# Altium footprint library LD_EDFA.PcbLib: 280 footprints (part 10 of 18)
Each footprint in its own frame and in the unit in brackets; x right, y up, seen from the top. Pads: shape width x height; smd on the part's side, far side on the other; paste and mask are expansions set on the pad; w line width, h text height; cw(c..) or ccw(c..) is an arc to the next point about the centre after c.
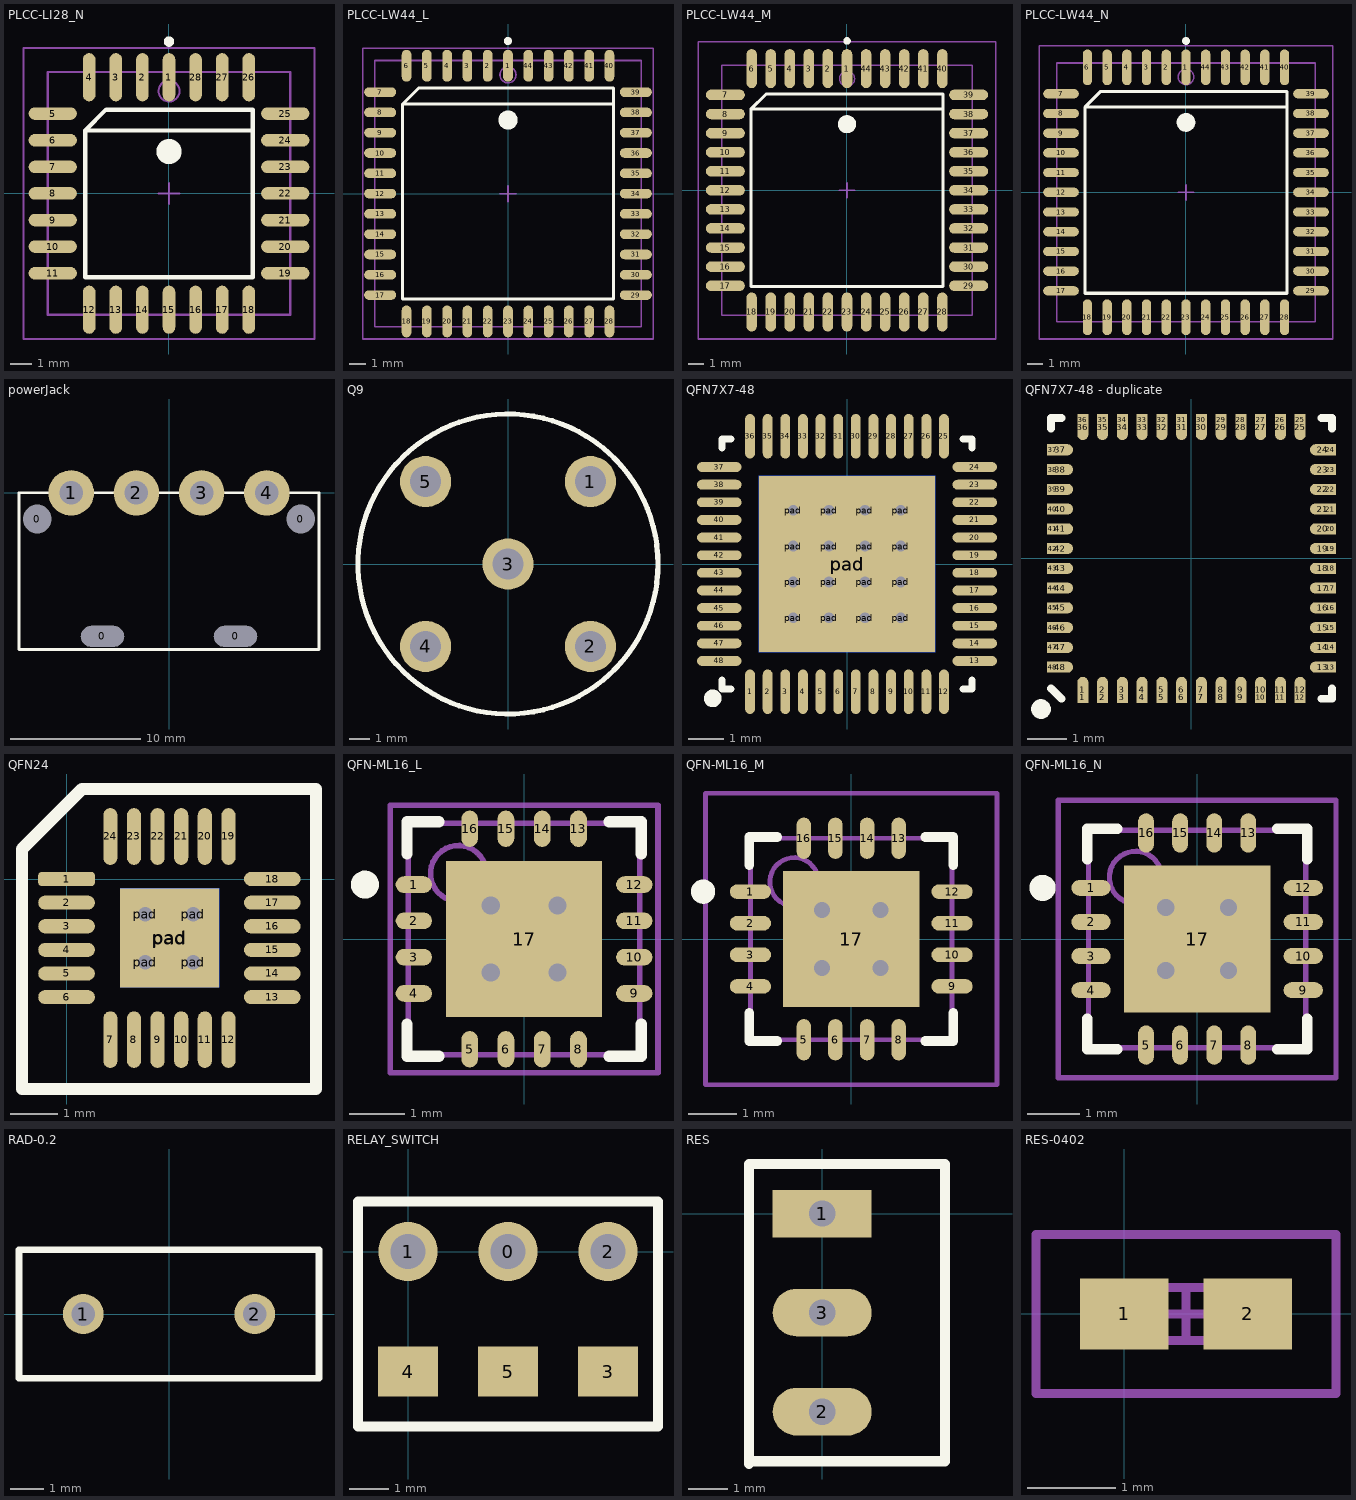
[diagram p9: the footprints below, top view; thin cyan lines are the x and y axes]

## PLCC-LI28_N [mm] "Leaded Chip Carrier, 28-Leads, Body 11.5x11.5mm, Pitch 1.27mm, IPC Medium Density"
height 4.58
pads (28):
  oval 0.6x2.3 smd: 1(0,5.55) 2(-1.27,5.55) 3(-2.54,5.55) 4(-3.81,5.55) 12(-3.81,-5.55) 13(-2.54,-5.55) 14(-1.27,-5.55) 15(0,-5.55) 16(1.27,-5.55) 17(2.54,-5.55) 18(3.81,-5.55) 26(3.81,5.55) 27(2.54,5.55) 28(1.27,5.55)
  oval 2.3x0.6 smd: 5(-5.55,3.81) 6(-5.55,2.54) 7(-5.55,1.27) 8(-5.55,0) 9(-5.55,-1.27) 10(-5.55,-2.54) 11(-5.55,-3.81) 19(5.55,-3.81) 20(5.55,-2.54) 21(5.55,-1.27) 22(5.55,0) 23(5.55,1.27) 24(5.55,2.54) 25(5.55,3.81)
Top Overlay:
  circle w0.6: c0,2 r0.3
  circle w0.25: c0,7.25 r0.125
  lines w0.2: 4,3 -4,3 ; -4,3 -4,-4 4,-4 4,4 -3,4 -4,3
Mechanical 13:
  circle w0.1: c0,4.89 r0.5
  lines w0.1: -5.79,-5.79 5.79,-5.79 5.79,5.79 -5.79,5.79 -5.79,-5.79
Mechanical 15:
  lines w0.1: -0.5,0 0.5,0 ; 0,-0.5 0,0.5 ; -6.95,-6.95 6.95,-6.95 6.95,6.95 -6.95,6.95 -6.95,-6.95
3D body: height 4.58, standoff 0, extent -5.79,-5.79 5.79,5.79

## PLCC-LW44_L [mm] "Leaded Chip Carrier, 44-Leads, Body 16.6x16.6mm, Pitch 1.27mm, IPC High Density"
height 4.58
pads (44):
  oval 0.6x2 smd: 1(0,8) 2(-1.27,8) 3(-2.54,8) 4(-3.81,8) 5(-5.08,8) 6(-6.35,8) 18(-6.35,-8) 19(-5.08,-8) 20(-3.81,-8) 21(-2.54,-8) 22(-1.27,-8) 23(0,-8) 24(1.27,-8) 25(2.54,-8) 26(3.81,-8) 27(5.08,-8) 28(6.35,-8) 40(6.35,8) 41(5.08,8) 42(3.81,8) 43(2.54,8) 44(1.27,8)
  oval 2x0.6 smd: 7(-8,6.35) 8(-8,5.08) 9(-8,3.81) 10(-8,2.54) 11(-8,1.27) 12(-8,0) 13(-8,-1.27) 14(-8,-2.54) 15(-8,-3.81) 16(-8,-5.08) 17(-8,-6.35) 29(8,-6.35) 30(8,-5.08) 31(8,-3.81) 32(8,-2.54) 33(8,-1.27) 34(8,0) 35(8,1.27) 36(8,2.54) 37(8,3.81) 38(8,5.08) 39(8,6.35)
Top Overlay:
  circle w0.25: c0,9.55 r0.125
  circle w0.6: c0,4.6 r0.3
  lines w0.2: 6.6,5.6 -6.6,5.6 ; -6.6,5.6 -5.6,6.6 6.6,6.6 6.6,-6.6 -6.6,-6.6 -6.6,5.6
Mechanical 13:
  circle w0.1: c0,7.43 r0.5
  lines w0.1: -8.33,-8.33 -8.33,8.33 8.33,8.33 8.33,-8.33 -8.33,-8.33
Mechanical 15:
  lines w0.1: -0.5,0 0.5,0 ; 0,-0.5 0,0.5 ; -9.1,-9.1 -9.1,9.1 9.1,9.1 9.1,-9.1 -9.1,-9.1
3D body: height 4.58, standoff 0, extent -8.33,-8.33 8.33,8.33

## PLCC-LW44_M [mm] "Leaded Chip Carrier, 44-Leads, Body 16.6x16.6mm, Pitch 1.27mm, IPC Low Density"
height 4.58
pads (44):
  oval 0.7x2.6 smd: 1(0,8.1) 2(-1.27,8.1) 3(-2.54,8.1) 4(-3.81,8.1) 5(-5.08,8.1) 6(-6.35,8.1) 18(-6.35,-8.1) 19(-5.08,-8.1) 20(-3.81,-8.1) 21(-2.54,-8.1) 22(-1.27,-8.1) 23(0,-8.1) 24(1.27,-8.1) 25(2.54,-8.1) 26(3.81,-8.1) 27(5.08,-8.1) 28(6.35,-8.1) 40(6.35,8.1) 41(5.08,8.1) 42(3.81,8.1) 43(2.54,8.1) 44(1.27,8.1)
  oval 2.6x0.7 smd: 7(-8.1,6.35) 8(-8.1,5.08) 9(-8.1,3.81) 10(-8.1,2.54) 11(-8.1,1.27) 12(-8.1,0) 13(-8.1,-1.27) 14(-8.1,-2.54) 15(-8.1,-3.81) 16(-8.1,-5.08) 17(-8.1,-6.35) 29(8.1,-6.35) 30(8.1,-5.08) 31(8.1,-3.81) 32(8.1,-2.54) 33(8.1,-1.27) 34(8.1,0) 35(8.1,1.27) 36(8.1,2.54) 37(8.1,3.81) 38(8.1,5.08) 39(8.1,6.35)
Top Overlay:
  circle w0.25: c0,9.95 r0.125
  circle w0.6: c0,4.4 r0.3
  lines w0.2: 6.4,5.4 -6.4,5.4 ; -6.4,5.4 -5.4,6.4 6.4,6.4 6.4,-6.4 -6.4,-6.4 -6.4,5.4
Mechanical 13:
  circle w0.1: c0,7.43 r0.5
  lines w0.1: -8.33,-8.33 -8.33,8.33 8.33,8.33 8.33,-8.33 -8.33,-8.33
Mechanical 15:
  lines w0.1: -0.5,0 0.5,0 ; 0,-0.5 0,0.5 ; -9.9,-9.9 -9.9,9.9 9.9,9.9 9.9,-9.9 -9.9,-9.9
3D body: height 4.58, standoff 0, extent -8.33,-8.33 8.33,8.33

## PLCC-LW44_N [mm] "Leaded Chip Carrier, 44-Leads, Body 16.6x16.6mm, Pitch 1.27mm, IPC Medium Density"
height 4.58
pads (44):
  oval 0.6x2.3 smd: 1(0,8.05) 2(-1.27,8.05) 3(-2.54,8.05) 4(-3.81,8.05) 5(-5.08,8.05) 6(-6.35,8.05) 18(-6.35,-8.05) 19(-5.08,-8.05) 20(-3.81,-8.05) 21(-2.54,-8.05) 22(-1.27,-8.05) 23(0,-8.05) 24(1.27,-8.05) 25(2.54,-8.05) 26(3.81,-8.05) 27(5.08,-8.05) 28(6.35,-8.05) 40(6.35,8.05) 41(5.08,8.05) 42(3.81,8.05) 43(2.54,8.05) 44(1.27,8.05)
  oval 2.3x0.6 smd: 7(-8.05,6.35) 8(-8.05,5.08) 9(-8.05,3.81) 10(-8.05,2.54) 11(-8.05,1.27) 12(-8.05,0) 13(-8.05,-1.27) 14(-8.05,-2.54) 15(-8.05,-3.81) 16(-8.05,-5.08) 17(-8.05,-6.35) 29(8.05,-6.35) 30(8.05,-5.08) 31(8.05,-3.81) 32(8.05,-2.54) 33(8.05,-1.27) 34(8.05,0) 35(8.05,1.27) 36(8.05,2.54) 37(8.05,3.81) 38(8.05,5.08) 39(8.05,6.35)
Top Overlay:
  circle w0.6: c0,4.5 r0.3
  circle w0.25: c0,9.75 r0.125
  lines w0.2: 6.5,5.5 -6.5,5.5 ; -6.5,5.5 -6.5,-6.5 6.5,-6.5 6.5,6.5 -5.5,6.5 -6.5,5.5
Mechanical 13:
  circle w0.1: c0,7.43 r0.5
  lines w0.1: -8.33,-8.33 8.33,-8.33 8.33,8.33 -8.33,8.33 -8.33,-8.33
Mechanical 15:
  lines w0.1: -0.5,0 0.5,0 ; 0,-0.5 0,0.5 ; -9.45,-9.45 9.45,-9.45 9.45,9.45 -9.45,9.45 -9.45,-9.45
3D body: height 4.58, standoff 0, extent -8.33,-8.33 8.33,8.33

## powerJack [mm]
pads (8):
  round 1 hole 2.2: 0(-10.1,-2) 0(10.1,-2)
  round 1 hole 1.6 slot 3.3 at 0 deg: 0(-5.1,-11) 0(5.1,-11)
  round 3.5 hole 1.8: 1(-7.5,0) 2(-2.5,0) 3(2.5,0) 4(7.5,0)
Top Overlay:
  lines w0.203: -11.5,-12 11.5,-12 11.5,0 -11.5,0 -11.5,-12

## Q9 [mil]
pads (5):
  round 100 hole 60: 1(161,161) 2(161,-161) 3(0,0) 4(-161,-161) 5(-161,161)
Top Overlay:
  circle w10: c0,0 r293

## QFN7X7-48 [mm]
pads (66):
  oval 0.28x1.26 smd: 1(-2.75,-3.625) 2(-2.25,-3.625) 3(-1.75,-3.625) 4(-1.25,-3.625) 5(-0.75,-3.625) 6(-0.25,-3.625) 7(0.25,-3.625) 8(0.75,-3.625) 9(1.25,-3.625) 10(1.75,-3.625) 11(2.25,-3.625) 12(2.75,-3.625) 25(2.75,3.625) 26(2.25,3.625) 27(1.75,3.625) 28(1.25,3.625) 29(0.75,3.625) 30(0.25,3.625) 31(-0.25,3.625) 32(-0.75,3.625) 33(-1.25,3.625) 34(-1.75,3.625) 35(-2.25,3.625) 36(-2.75,3.625)
  oval 1.26x0.28 smd: 13(3.625,-2.75) 14(3.625,-2.25) 15(3.625,-1.75) 16(3.625,-1.25) 17(3.625,-0.75) 18(3.625,-0.25) 19(3.625,0.25) 20(3.625,0.75) 21(3.625,1.25) 22(3.625,1.75) 23(3.625,2.25) 24(3.625,2.75) 37(-3.625,2.75) 38(-3.625,2.25) 39(-3.625,1.75) 40(-3.625,1.25) 41(-3.625,0.75) 42(-3.625,0.25) 43(-3.625,-0.25) 44(-3.625,-0.75) 45(-3.625,-1.25) 46(-3.625,-1.75) 47(-3.625,-2.25) 48(-3.625,-2.75)
  round 0.635 hole 0.305: pad(-1.524,-1.524) pad(-1.524,-0.508) pad(-1.524,0.508) pad(-1.524,1.524) pad(-0.508,-1.524) pad(-0.508,-0.508) pad(-0.508,0.508) pad(-0.508,1.524) pad(0.508,-1.524) pad(0.508,-0.508) pad(0.508,0.508) pad(0.508,1.524) pad(1.524,-1.524) pad(1.524,-0.508) pad(1.524,0.508) pad(1.524,1.524)
  rect 5x5 smd: pad(0,0)
  rect 5x5 smd far side: pad(0,0)
Top Overlay:
  circle w0.25: c-3.808,-3.81 r0.125
  lines w0.2: -3.55,-3.29 -3.55,-3.55 -3.29,-3.55 ; -3.55,3.29 -3.55,3.55 -3.29,3.55 ; 3.29,-3.55 3.55,-3.55 3.55,-3.29 ; 3.29,3.55 3.55,3.55 3.55,3.29
3D body: height 1, standoff 0, extent -3.505,-3.505 3.505,3.505

## QFN7X7-48 - duplicate [mm]
pads (96):
  rect 0.28x0.28 smd: 1(-2.75,-3.515) 2(-2.25,-3.515) 3(-1.75,-3.515) 4(-1.25,-3.515) 5(-0.75,-3.515) 6(-0.25,-3.515) 7(0.25,-3.515) 8(0.75,-3.515) 9(1.25,-3.515) 10(1.75,-3.515) 11(2.25,-3.515) 12(2.75,-3.515) 13(3.515,-2.75) 14(3.515,-2.25) 15(3.515,-1.75) 16(3.515,-1.25) 17(3.515,-0.75) 18(3.515,-0.25) 19(3.515,0.25) 20(3.515,0.75) 21(3.515,1.25) 22(3.515,1.75) 23(3.515,2.25) 24(3.515,2.75) 25(2.75,3.515) 26(2.25,3.515) 27(1.75,3.515) 28(1.25,3.515) 29(0.75,3.515) 30(0.25,3.515) 31(-0.25,3.515) 32(-0.75,3.515) 33(-1.25,3.515) 34(-1.75,3.515) 35(-2.25,3.515) 36(-2.75,3.515) 37(-3.515,2.75) 38(-3.515,2.25) 39(-3.515,1.75) 40(-3.515,1.25) 41(-3.515,0.75) 42(-3.515,0.25) 43(-3.515,-0.25) 44(-3.515,-0.75) 45(-3.515,-1.25) 46(-3.515,-1.75) 47(-3.515,-2.25) 48(-3.515,-2.75)
  oval 0.28x0.66 smd: 1(-2.75,-3.325) 2(-2.25,-3.325) 3(-1.75,-3.325) 4(-1.25,-3.325) 5(-0.75,-3.325) 6(-0.25,-3.325) 7(0.25,-3.325) 8(0.75,-3.325) 9(1.25,-3.325) 10(1.75,-3.325) 11(2.25,-3.325) 12(2.75,-3.325) 25(2.75,3.325) 26(2.25,3.325) 27(1.75,3.325) 28(1.25,3.325) 29(0.75,3.325) 30(0.25,3.325) 31(-0.25,3.325) 32(-0.75,3.325) 33(-1.25,3.325) 34(-1.75,3.325) 35(-2.25,3.325) 36(-2.75,3.325)
  oval 0.66x0.28 smd: 13(3.325,-2.75) 14(3.325,-2.25) 15(3.325,-1.75) 16(3.325,-1.25) 17(3.325,-0.75) 18(3.325,-0.25) 19(3.325,0.25) 20(3.325,0.75) 21(3.325,1.25) 22(3.325,1.75) 23(3.325,2.25) 24(3.325,2.75) 37(-3.325,2.75) 38(-3.325,2.25) 39(-3.325,1.75) 40(-3.325,1.25) 41(-3.325,0.75) 42(-3.325,0.25) 43(-3.325,-0.25) 44(-3.325,-0.75) 45(-3.325,-1.25) 46(-3.325,-1.75) 47(-3.325,-2.25) 48(-3.325,-2.75)
Top Overlay:
  circle w0.25: c-3.808,-3.81 r0.125
  lines w0.2: -3.55,-3.29 -3.29,-3.55 ; -3.55,3.29 -3.55,3.55 -3.29,3.55 ; 3.29,-3.55 3.55,-3.55 3.55,-3.29 ; 3.29,3.55 3.55,3.55 3.55,3.29

## QFN24 [mm]
pads (30):
  rrect50% 1.2x0.3 smd: 1(0,0)
  oval 1.2x0.3 smd: 2(0,-0.5) 3(0,-1) 4(0,-1.5) 5(0,-2) 6(0,-2.5) 13(4.354,-2.5) 14(4.354,-2) 15(4.354,-1.5) 16(4.354,-1) 17(4.354,-0.5) 18(4.354,0)
  oval 0.3x1.2 smd: 7(0.927,-3.4) 8(1.427,-3.4) 9(1.927,-3.4) 10(2.427,-3.4) 11(2.927,-3.4) 12(3.427,-3.4) 19(3.427,0.9) 20(2.927,0.9) 21(2.427,0.9) 22(1.927,0.9) 23(1.427,0.9) 24(0.927,0.9)
  round 0.635 hole 0.305 paste+0 mask+0: pad(1.669,-1.758) pad(1.669,-0.742) pad(2.685,-1.758) pad(2.685,-0.742)
  rect 2.1x2.1 smd: pad(2.177,-1.25)
  rect 2.1x2.1 smd far side: pad(2.184,-1.245)
Top Overlay:
  lines w0.254: -0.943,-4.445 5.28,-4.445 5.28,1.905 0.327,1.905 -0.943,0.635 -0.943,-4.445

## QFN-ML16_L [mm] "QFN, 16-Leads, Body 4x4 mm, Pitch 0.65mm, IPC High Density"
height 1
pads (17):
  oval 0.65x0.3 smd: 1(-1.975,0.975) 2(-1.975,0.325) 3(-1.975,-0.325) 4(-1.975,-0.975) 9(1.975,-0.975) 10(1.975,-0.325) 11(1.975,0.325) 12(1.975,0.975)
  oval 0.3x0.65 smd: 5(-0.975,-1.975) 6(-0.325,-1.975) 7(0.325,-1.975) 8(0.975,-1.975) 13(0.975,1.975) 14(0.325,1.975) 15(-0.325,1.975) 16(-0.975,1.975)
  rect 2.8x2.8 smd: 17(0,0)
via 0.6,-0.6 diameter 0.66 hole 0.33
via -0.6,-0.6 diameter 0.66 hole 0.33
via 0.6,0.6 diameter 0.66 hole 0.33
via -0.6,0.6 diameter 0.66 hole 0.33
Top Overlay:
  circle w0.25: c-2.85,0.975 r0.125
  lines w0.2: -2.1,-1.525 -2.1,-2.1 -1.525,-2.1 ; -2.1,1.525 -2.1,2.1 -1.525,2.1 ; 1.525,-2.1 2.1,-2.1 2.1,-1.525 ; 1.525,2.1 2.1,2.1 2.1,1.525
Mechanical 13:
  circle w0.1: c-1.175,1.175 r0.5
  lines w0.1: -2.075,-2.075 2.075,-2.075 2.075,2.075 -2.075,2.075 -2.075,-2.075
Mechanical 15:
  lines w0.1: -0.5,0 0.5,0 ; 0,-0.5 0,0.5 ; -2.4,-2.4 2.4,-2.4 2.4,2.4 -2.4,2.4 -2.4,-2.4
3D body: height 1, standoff 0, extent -2.075,-2.075 2.075,2.075

## QFN-ML16_M [mm] "QFN, 16-Leads, Body 4x4 mm, Pitch 0.65mm, IPC Low Density"
height 1
pads (17):
  oval 0.85x0.3 smd: 1(-2.075,0.975) 2(-2.075,0.325) 3(-2.075,-0.325) 4(-2.075,-0.975) 9(2.075,-0.975) 10(2.075,-0.325) 11(2.075,0.325) 12(2.075,0.975)
  oval 0.3x0.85 smd: 5(-0.975,-2.075) 6(-0.325,-2.075) 7(0.325,-2.075) 8(0.975,-2.075) 13(0.975,2.075) 14(0.325,2.075) 15(-0.325,2.075) 16(-0.975,2.075)
  rect 2.8x2.8 smd: 17(0,0)
via 0.6,-0.6 diameter 0.66 hole 0.33
via -0.6,-0.6 diameter 0.66 hole 0.33
via 0.6,0.6 diameter 0.66 hole 0.33
via -0.6,0.6 diameter 0.66 hole 0.33
Top Overlay:
  circle w0.25: c-3.05,0.975 r0.125
  lines w0.2: -2.1,-1.525 -2.1,-2.1 -1.525,-2.1 ; -2.1,1.525 -2.1,2.1 -1.525,2.1 ; 1.525,-2.1 2.1,-2.1 2.1,-1.525 ; 1.525,2.1 2.1,2.1 2.1,1.525
Mechanical 13:
  circle w0.1: c-1.175,1.175 r0.5
  lines w0.1: -2.075,-2.075 2.075,-2.075 2.075,2.075 -2.075,2.075 -2.075,-2.075
Mechanical 15:
  lines w0.1: -0.5,0 0.5,0 ; 0,-0.5 0,0.5 ; -3,-3 3,-3 3,3 -3,3 -3,-3
3D body: height 1, standoff 0, extent -2.075,-2.075 2.075,2.075

## QFN-ML16_N [mm] "QFN, 16-Leads, Body 4x4 mm, Pitch 0.65mm, IPC Medium Density"
height 1
pads (17):
  oval 0.75x0.3 smd: 1(-2.025,0.975) 2(-2.025,0.325) 3(-2.025,-0.325) 4(-2.025,-0.975) 9(2.025,-0.975) 10(2.025,-0.325) 11(2.025,0.325) 12(2.025,0.975)
  oval 0.3x0.75 smd: 5(-0.975,-2.025) 6(-0.325,-2.025) 7(0.325,-2.025) 8(0.975,-2.025) 13(0.975,2.025) 14(0.325,2.025) 15(-0.325,2.025) 16(-0.975,2.025)
  rect 2.8x2.8 smd: 17(0,0)
via -0.6,0.6 diameter 0.66 hole 0.33
via 0.6,0.6 diameter 0.66 hole 0.33
via -0.6,-0.6 diameter 0.66 hole 0.33
via 0.6,-0.6 diameter 0.66 hole 0.33
Top Overlay:
  circle w0.25: c-2.95,0.975 r0.125
  lines w0.2: -2.1,-1.525 -2.1,-2.1 -1.525,-2.1 ; -2.1,1.525 -2.1,2.1 -1.525,2.1 ; 1.525,-2.1 2.1,-2.1 2.1,-1.525 ; 1.525,2.1 2.1,2.1 2.1,1.525
Mechanical 13:
  circle w0.1: c-1.175,1.175 r0.5
  lines w0.1: -2.075,-2.075 -2.075,2.075 2.075,2.075 2.075,-2.075 -2.075,-2.075
Mechanical 15:
  lines w0.1: -0.5,0 0.5,0 ; 0,-0.5 0,0.5 ; -2.65,-2.65 -2.65,2.65 2.65,2.65 2.65,-2.65 -2.65,-2.65
3D body: height 1, standoff 0, extent -2.075,-2.075 2.075,2.075

## RAD-0.2 [mm]
pads (2):
  round 1.2 hole 0.7: 1(-2.54,0) 2(2.54,0)
Top Overlay:
  lines w0.2: -4.445,-1.905 4.445,-1.905 4.445,1.905 -4.445,1.905 -4.445,-1.905

## RELAY_SWITCH [mm]
pads (6):
  round 1.5 hole 0.9: 0(2.54,0) 1(0,0) 2(5.08,0)
  rect 1.524x1.27 smd: 3(5.08,-3.048) 4(0,-3.048) 5(2.54,-3.048)
Top Overlay:
  lines w0.254: -1.27,-4.445 6.35,-4.445 6.35,1.27 -1.27,1.27 -1.27,-4.445

## RES [mm]
pads (3):
  rect 2.5x1.2 hole 0.66: 1(0,0)
  oval 2.5x1.2 hole 0.66: 2(0,-5) 3(0,-2.5)
Top Overlay:
  lines w0.254: -1.849,-6.319 -1.78,-6.25 3.101,-6.25 3.101,1.25 -1.849,1.25 -1.849,-6.319

## RES-0402 [mm]
pads (2):
  rect 1x0.8 smd: 1(0,0) 2(1.4,0)
Mechanical 13:
  lines w0.1: 0.15,-0.3 0.15,0.3 1.25,0.3 1.25,-0.3 0.15,-0.3
Mechanical 15:
  lines w0.1: 0.4,0 1,0 ; 0.7,-0.3 0.7,0.3 ; -1,-0.9 -1,0.9 2.4,0.9 2.4,-0.9 -1,-0.9
3D body: height 0.4, standoff 0, extent 0.15,-0.3 1.25,0.3